# Altium footprint library LM2596_DC_TO_DC_PcbLibrary1.PcbLib: 6 footprints
Each footprint in its own frame and in the unit in brackets; x right, y up, seen from the top. Pads: shape width x height; smd on the part's side, far side on the other; paste and mask are expansions set on the pad; w line width, h text height; cw(c..) or ccw(c..) is an arc to the next point about the centre after c.
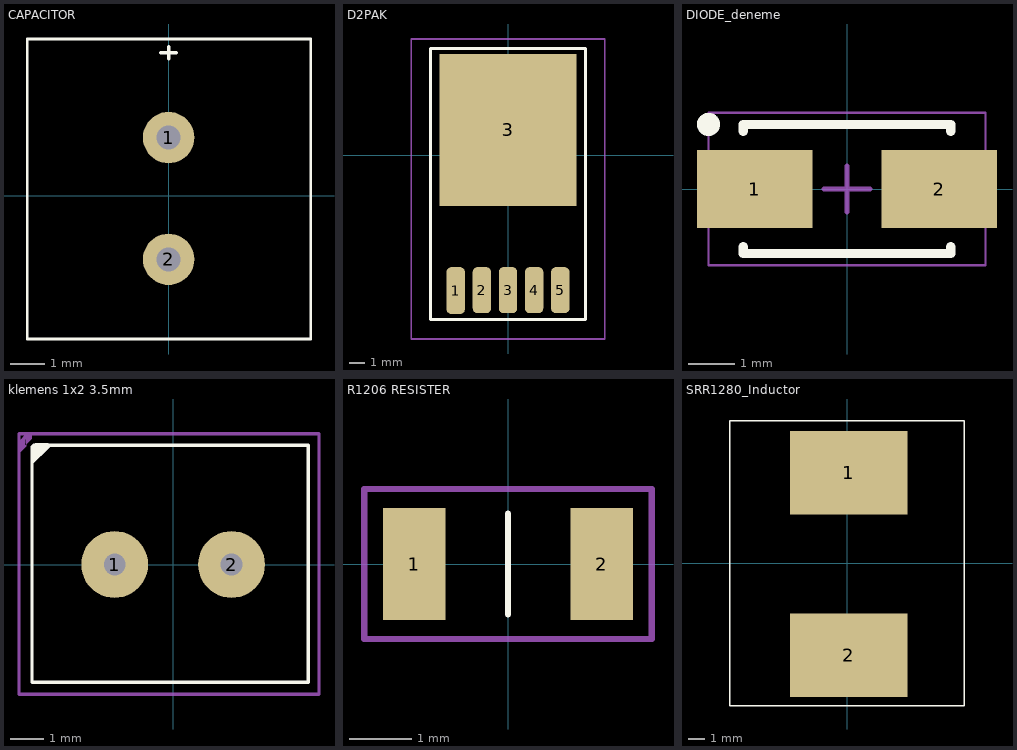
[diagram p0: the footprints below, top view; thin cyan lines are the x and y axes]

## CAPACITOR [mm]
pads (2):
  round 1.5 hole 0.7: 1(0,1.7) 2(0,-1.85)
Top Overlay:
  lines w0.076: -4.125,-4.175 4.15,-4.175 4.15,4.575 -4.125,4.575 -4.125,-4.175
  lines w0.1: -0.225,4.175 0.225,4.175 ; 0,4 0,4.35
3D body "CAPACITOR 220uF 35V 8X11.5mm.step": height 11.88, standoff -4.62, extent -3.975,-4.076 4.025,3.925

## D2PAK [mm]
pads (6):
  rrect50% 1.2x3.075 smd: 1(-3.429,-8.89)
  rrect50% 1.2x3.015 smd: 2(-1.714,-8.86) 3(0,-8.86) 4(1.714,-8.86) 5(3.429,-8.86)
  rect 9x10 smd: 3(0,1.651)
Top Overlay:
  lines w0.2: -5.08,-10.795 -5.08,-3.175 -5.08,6.985 5.08,6.985 5.08,-10.795 -5.08,-10.795
Mechanical 15:
  lines w0.1: -1.524,0 1.524,0 ; 0,-1.524 0,1.524 ; -6.35,-12.065 -6.35,-2.032 -6.35,7.62 6.35,7.62 6.35,-12.065 -6.35,-12.065
3D body "TO263-5-1.stp": height 4.22, standoff 0, extent -4.911,-9.561 4.911,5.041

## DIODE_deneme [mm] "Molded Diode, 2-Leads, Body 4.25x2.67mm, IPC Medium Density"
height 2.99
pads (2):
  rect 2.5x1.7 smd: 1(-2,0) 2(2,0)
Top Overlay:
  circle w0.25: c-3,1.4 r0.125
  lines w0.2: -2.25,-1.25 -2.25,-1.4 2.25,-1.4 2.25,-1.25 ; -2.25,1.25 -2.25,1.4 2.25,1.4 2.25,1.25
Mechanical 3:
  lines w0.05: -3,-1.65 -3,1.65 3,1.65 3,-1.65 -3,-1.65
  lines w0.1: -0.5,0 0.5,0 ; 0,-0.5 0,0.5
3D body "DIODE_deneme.step": height 2.99, standoff 0, extent -2.47,-1.395 2.47,1.395

## klemens 1x2 3.5mm [mm]
pads (2):
  round 2 hole 0.65: 1(-1.75,0) 2(1.75,0)
Top Overlay:
  region: -3.683,3.532 -4.256,2.959 -4.256,3.494 -4.122,3.628 -3.743,3.628
  lines w0.1: -4.225,3.525 -4.225,-3.525 4.05,-3.525 4.05,3.575 -4.175,3.575
Mechanical 3:
  region: -4.398,3.91 -4.614,3.694 -4.614,3.912 -4.612,3.91 -4.398,3.91 -4.398,3.546 -4.612,3.332 -4.612,3.91 -4.398,3.91 -4.391,3.903 -4.232,3.903 -4.232,3.76 -4.435,3.557
  lines w0.1: -4.612,-3.872 -4.612,3.91 -4.398,3.91 4.367,3.91 4.367,-3.881 -4.603,-3.881 -4.612,-3.872
3D body "terminal_blocks_a-tb350-te02.stp": height 8.9, standoff -3.29, extent -4.05,-3.4 3.944,3.6

## R1206 RESISTER [mm]
pads (2):
  rect 1x1.8 smd mask+0.05: 1(-1.5,0) 2(1.5,0)
Top Overlay:
  lines w0.1: 0,-0.805 0,0.805
Mechanical 3:
  lines w0.1: -2.3,-1.2 -2.3,1.2 2.3,1.2 2.3,-1.2 -2.3,-1.2
3D body "1206RES.step": height 0.55, standoff 0, extent -1.6,-0.805 1.6,0.805

## SRR1280_Inductor [mm]
pads (2):
  rect 7x5 smd: 1(0.1,5.4) 2(0.1,-5.5)
Top Overlay:
  lines w0.076: -7,-8.5 7,-8.5 7,8.5 -7,8.5 -7,-8.5
3D body "Inductor_33µH_srr1280_model.stp": height 8.5, standoff 1, extent -6.25,-6.25 6.25,6.25